# EAGLE library part PARTICLE-ELECTRON-1.0 (library Circuitos-Creativos-Modulos)
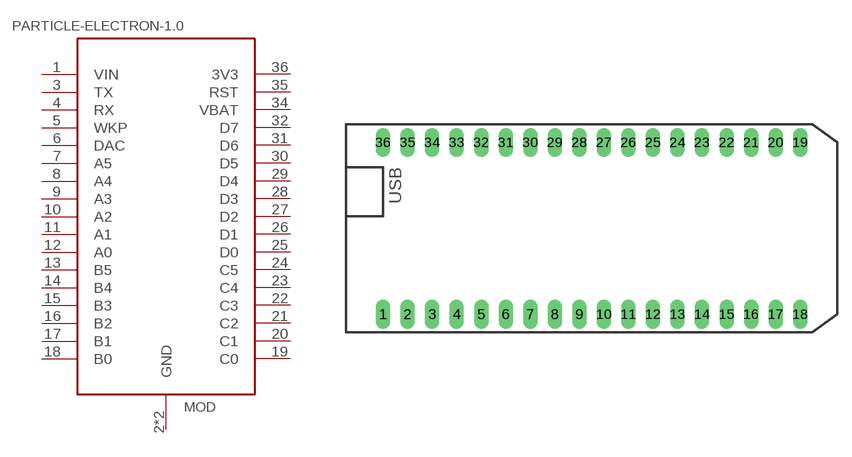
[diagram p1: symbol with the pads of PARTICLE-ELECTRON-1.0; footprint PARTICLE-ELECTRON-1.0]

Designator prefix MOD

## PARTICLE-ELECTRON-1.0  [PARTICLE-ELECTRON-1.0]
1  VIN  pwr
2  GND  pwr
3  TX
4  RX
5  WKP
6  DAC
7  A5
8  A4
9  A3
10  A2
11  A1
12  A0
13  B5
14  B4
15  B3
16  B2
17  B1
18  B0
19  C0
20  C1
21  C2
22  C3
23  C4
24  C5
25  D0
26  D1
27  D2
28  D3
29  D4
30  D5
31  D6
32  D7
33  GND  pwr
34  VBAT  sup
35  RST
36  3V3  pwr

## Footprint PARTICLE-ELECTRON-1.0 (pad centres in mm)
drill 1.016 long: 1 -21.59,-8.89; 2 -19.05,-8.89; 3 -16.51,-8.89; 4 -13.97,-8.89; 5 -11.43,-8.89; 6 -8.89,-8.89; 7 -6.35,-8.89; 8 -3.81,-8.89; 9 -1.27,-8.89; 10 1.27,-8.89; 11 3.81,-8.89; 12 6.35,-8.89; 13 8.89,-8.89; 14 11.43,-8.89; 15 13.97,-8.89; 16 16.51,-8.89; 17 19.05,-8.89; 18 21.59,-8.89; 19 21.59,8.89; 20 19.05,8.89; 21 16.51,8.89; 22 13.97,8.89; 23 11.43,8.89; 24 8.89,8.89; 25 6.35,8.89; 26 3.81,8.89; 27 1.27,8.89; 28 -1.27,8.89; 29 -3.81,8.89; 30 -6.35,8.89; 31 -8.89,8.89; 32 -11.43,8.89; 33 -13.97,8.89; 34 -16.51,8.89; 35 -19.05,8.89; 36 -21.59,8.89